# Altium footprint library FootPrintLib_6.PcbLib: 588 footprints (part 4 of 37)
Each footprint in its own frame and in the unit in brackets; x right, y up, seen from the top. Pads: shape width x height; smd on the part's side, far side on the other; paste and mask are expansions set on the pad; w line width, h text height; cw(c..) or ccw(c..) is an arc to the next point about the centre after c.
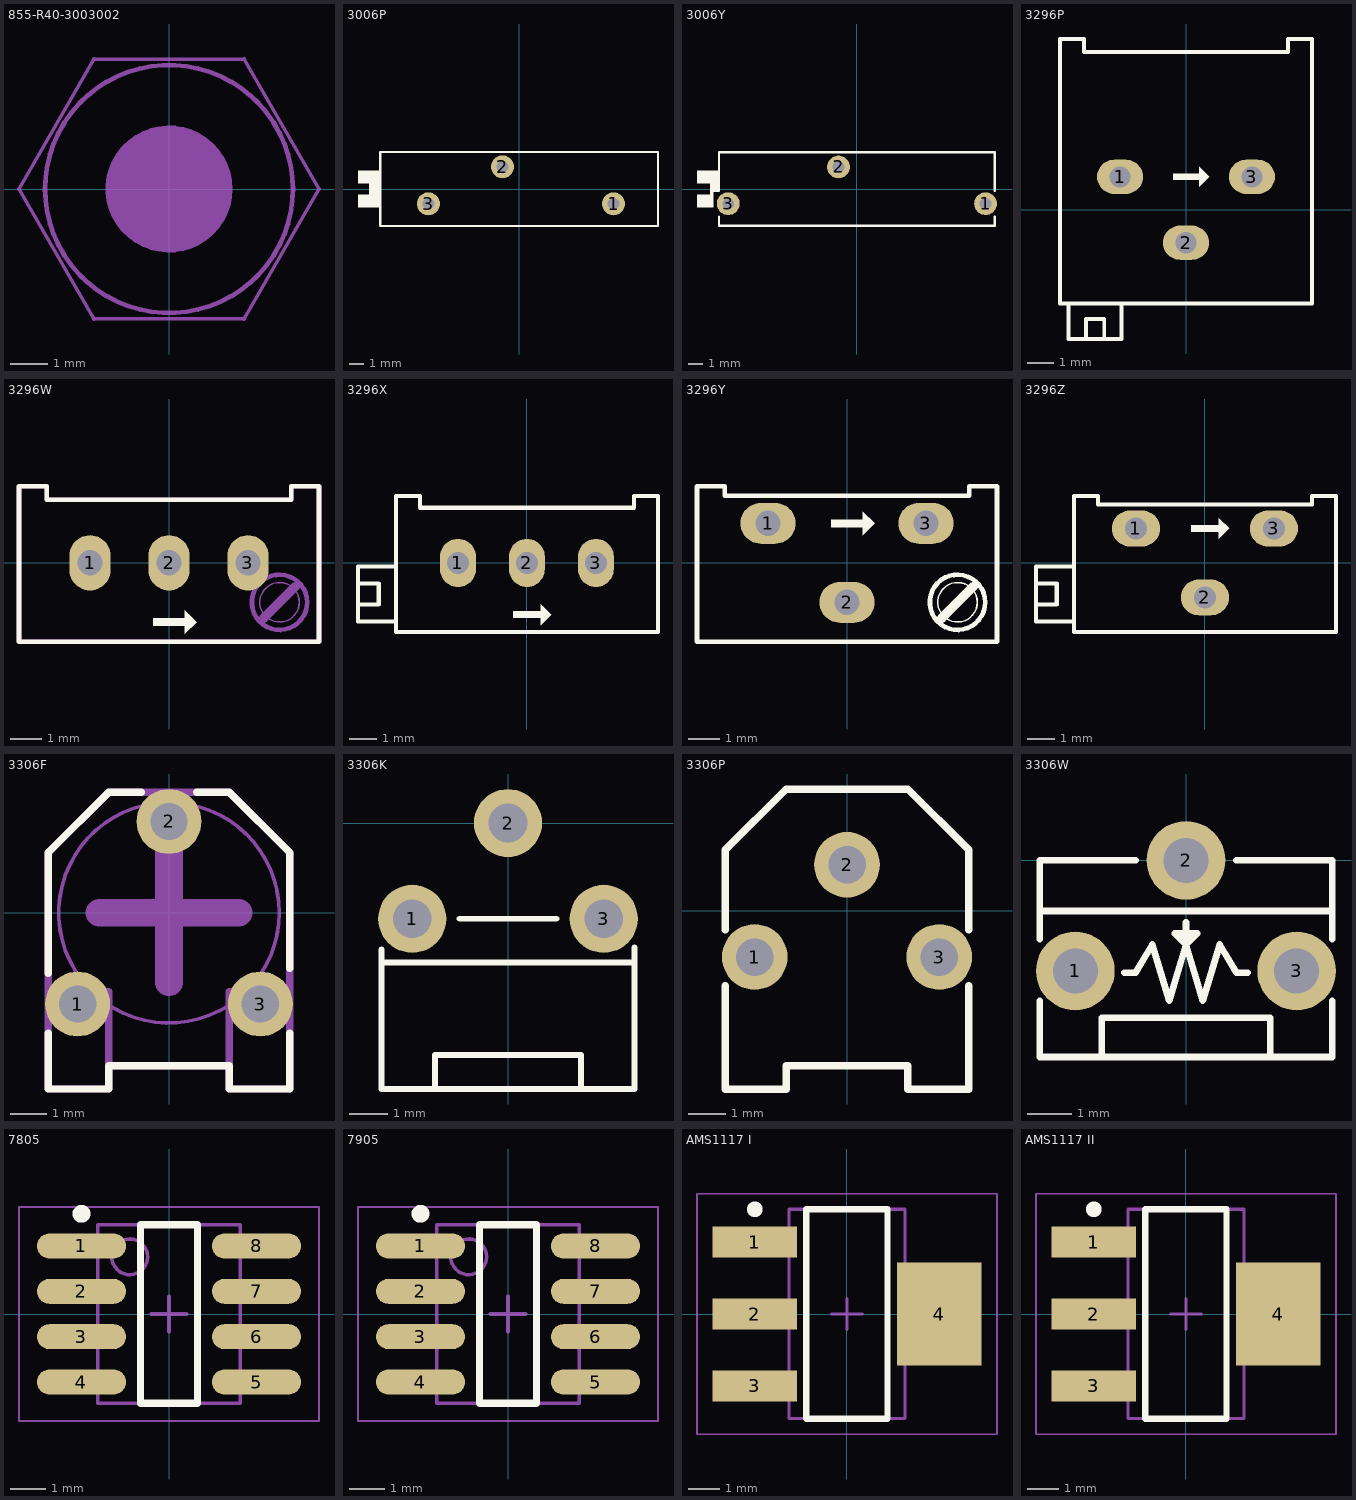
[diagram p3: the footprints below, top view; thin cyan lines are the x and y axes]

## 855-R40-3003002 [mm] "HARWiN Metric HEX Spacer; Threaded-Brass/Nickel; Male/Female; M4 X 30 mm"
height 30
Mechanical 2:
  circle w0.127: c0,0 r1.65
  circle w0.127: c0,0 r3.34
  region: 0,-1.65 -0.163,-1.65 -0.481,-1.587 -0.782,-1.462 -1.052,-1.282 -1.282,-1.052 -1.462,-0.782 -1.587,-0.481 -1.65,-0.163 -1.65,0 -1.65,0.163 -1.587,0.481 -1.462,0.782 -1.282,1.052 -1.052,1.282 -0.782,1.462 -0.481,1.587 -0.163,1.65 0,1.65 0.163,1.65 0.481,1.587 0.782,1.462 1.052,1.282 1.282,1.052 1.462,0.782 1.587,0.481 1.65,0.163 1.65,0 1.65,-0.163 1.587,-0.481 1.462,-0.782 1.282,-1.052 1.052,-1.282 0.782,-1.462 0.481,-1.587 0.163,-1.65
  lines w0.102: -4.043,-0.002 -2.019,3.502 ; -4.043,0.002 -2.019,-3.502 ; -2.024,-3.5 2.024,-3.5 ; -2.024,3.5 2.024,3.5 ; 2.019,-3.502 4.043,0.002 ; 2.019,3.502 4.043,-0.002
3D body "Metric Brass-Nickel HEX Spacer Male-Female M4 X 30 mm.STEP": height 30, standoff -8, extent -4.041,-3.5 4.042,3.5

## 3006P [mil]
pads (3):
  round 62 hole 32: 1(255,-40) 2(-45,60) 3(-245,-40)
Top Overlay:
  rectangle: -435,-50 -400,-15
  rectangle: -435,15 -400,50
  rectangle: -405,-50 -375,50
  lines w6: -375,-100 -375,100 375,100 375,-100 -375,-100
3D body "SW3dPS-bourns_3006p.STEP": height 250.98, standoff -204.02, extent -435,-95 375,95

## 3006Y [mil]
pads (3):
  round 62 hole 32: 1(350,-40) 2(-50,60) 3(-350,-40)
Top Overlay:
  rectangle: -435,-50 -400,-15
  rectangle: -435,15 -400,50
  rectangle: -400,-50 -390,50
  rectangle: -390,-5 -375,50
  lines w6: -390,-5 -375,-5 -375,100 375,100 375,-5 ; -375,-75 -375,-100 375,-100 375,-75

## 3296P [mil]
pads (3):
  oval 70x52 hole 32: 1(-100,50) 2(0,-50) 3(100,50)
Top Overlay:
  rectangle: -20,45 20,55
  region: 20,65 20,35 35,50
  lines w6: -178,-142 -178,-196 -98,-196 -98,-142 ; -152,-196 -152,-166 -124,-166 -124,-196 ; -191,-142 -191,259 -155,259 -155,239 155,239 155,259 191,259 191,-142 -191,-142
3D body "SW3dPS-bourns 3296P pot.STEP": height 173.27, standoff -342.13, extent -187.6,-198.73 187.6,256

## 3296W [mil]
pads (3):
  oval 52x70 hole 32: 1(-100,0) 2(0,0) 3(100,0)
Top Overlay:
  rectangle: -20,-80 20,-70
  region: 20,-60 20,-90 35,-75
  lines w6: -190,-100 -190,97 -155,97 -155,80 155,80 155,97 190,97 190,-100 -190,-100
Mechanical 1:
  circle w6: c140,-50 r35
  circle w2: c140,-50 r25
  lines w6: -190,-100 190,-100 190,97 155,97 155,80 -155,80 -155,97 -190,97 -190,-100
  lines w12: 120,-70 160,-30
3D body "SW3dPS-bourns 3296W pot.STEP": height 454.72, standoff -251.97, extent -187.19,-96 188,94.2

## 3296X [mil]
pads (3):
  oval 52x70 hole 32: 1(-100,0) 2(0,0) 3(100,0)
Top Overlay:
  rectangle: -20,-80 20,-70
  region: 20,-60 20,-90 35,-75
  lines w6: -245,-60 -215,-60 -215,-30 -245,-30 ; -190,-85 -245,-85 -245,-5 -190,-5 ; -190,-100 -190,97 -155,97 -155,80 155,80 155,97 190,97 190,-100 -190,-100
3D body "SW3dPS-bourns 3296X pot.STEP": height 394.88, standoff -251.97, extent -247.44,-95 187.6,95.19

## 3296Y [mil]
pads (3):
  oval 70x52 hole 32: 1(-100,50) 2(0,-50) 3(100,50)
Top Overlay:
  circle w2: c140,-50 r25
  circle w6: c140,-50 r35
  rectangle: -20,45 20,55
  region: 20,65 20,35 35,50
  lines w6: -190,-100 190,-100 190,97 155,97 155,85 -155,85 -155,97 -190,97 -190,-100
  lines w12: 120,-70 160,-30
3D body "SW3dPS-bourns 3296Y pot.STEP": height 454.72, standoff -251.97, extent -187.6,-95 187.6,95.19

## 3296Z [mil]
pads (3):
  oval 70x52 hole 32: 1(-100,50) 2(0,-50) 3(100,50)
Top Overlay:
  rectangle: -20,45 20,55
  region: 20,65 20,35 35,50
  lines w6: -245,-60 -215,-60 -215,-30 -245,-30 ; -190,-85 -245,-85 -245,-5 -190,-5 ; -190,-100 190,-100 190,97 155,97 155,85 -155,85 -155,97 -190,97 -190,-100
3D body "SW3dPS-bourns 3296Z pot.STEP": height 394.88, standoff -251.97, extent -247.44,-95 187.6,95.19

## 3306F [mil]
pads (3):
  round 70 hole 40: 1(-98.43,-98.43) 2(0,98.43) 3(98.43,-98.43)
Top Overlay:
  lines w8: -130,-130 -130,-190 -65,-190 -65,-165 65,-165 65,-190 130,-190 130,-130 ; -130,-65 -130,65 -65,130 -30,130 ; 30,130 65,130 130,65 130,-60
Mechanical 1:
  circle w3.94: c0,0 r118.85
  lines w8: -130,-60 -130,-85 -65,-85 -65,-165 ; 130,-60 130,-85 65,-85 65,-165 ; -65,-165 -65,-190 -130,-190 -130,65 -65,130 65,130 130,65 130,-190 65,-190 65,-165 ; -65,-165 65,-165
  lines w30: -75,0 75,0 ; 0,-75 0,75
3D body "User Library-Trimmer, 3306F-1.STEP": height 300, standoff -119.49, extent -134.05,-191.99 134.05,132.88

## 3306K [mil]
pads (3):
  round 70 hole 40: 1(-98.43,-98.43) 2(0,0) 3(98.43,-98.43)
Top Overlay:
  lines w6: -130,-143.43 130,-143.43 ; -130,-130 -130,-273.43 130,-273.43 130,-127.95 ; -75,-273.43 -75,-238.43 75,-238.43 75,-273.43 ; -50,-98.43 50,-98.43

## 3306P [mil]
pads (3):
  round 70 hole 40: 1(-98.43,-49.21) 2(0,49.21) 3(98.43,-49.21)
Top Overlay:
  lines w8: -130,-80 -130,-190 -65,-190 -65,-165 65,-165 65,-190 130,-190 130,-80 ; -130,-20 -130,65 -65,130 65,130 130,65 130,-20

## 3306W [mil]
pads (3):
  round 70 hole 40: 1(-98.43,-98.43) 2(0,0) 3(98.43,-98.43)
Top Overlay:
  lines w6: -130,-125 -130,-175 130,-175 130,-125 ; -130,-70 -130,0 -45,0 ; -130,-45 130,-45 ; -75,-175 -75,-140 75,-140 75,-175 ; -55,-100 -45,-100 -30,-75 -15,-125 0,-75 ; 45,0 130,0 130,-70 ; 55,-100 45,-100 30,-75 15,-125 0,-75 ; 0,-75 0,-55 0,-75 ; 0,-75 10,-65 -10,-65 0,-75
3D body "User Library-POT-3306W.STEP": height 330.71, standoff -75, extent -134.05,-177.16 134.05,5.9

## 7805 [mm]
pads (8):
  oval 2.5x0.7 smd: 1(-2.45,1.905) 2(-2.45,0.635) 3(-2.45,-0.635) 4(-2.45,-1.905) 5(2.45,-1.905) 6(2.45,-0.635) 7(2.45,0.635) 8(2.45,1.905)
Top Overlay:
  circle w0.25: c-2.45,2.805 r0.125
  lines w0.2: -0.8,-2.5 0.8,-2.5 0.8,2.5 -0.8,2.5 -0.8,-2.5
Mechanical 13:
  circle w0.1: c-1.1,1.6 r0.5
  lines w0.1: -2,-2.5 2,-2.5 2,2.5 -2,2.5 -2,-2.5
Mechanical 15:
  lines w0.05: -4.2,-3 4.2,-3 4.2,3 -4.2,3 -4.2,-3
  lines w0.1: -0.5,0 0.5,0 ; 0,-0.5 0,0.5
3D body: height 1.75, standoff 0.1, extent -2,-2.5 2,2.5

## 7905 [mm]
pads (8):
  oval 2.5x0.7 smd: 1(-2.45,1.905) 2(-2.45,0.635) 3(-2.45,-0.635) 4(-2.45,-1.905) 5(2.45,-1.905) 6(2.45,-0.635) 7(2.45,0.635) 8(2.45,1.905)
Top Overlay:
  circle w0.25: c-2.45,2.805 r0.125
  lines w0.2: -0.8,-2.5 0.8,-2.5 0.8,2.5 -0.8,2.5 -0.8,-2.5
Mechanical 13:
  circle w0.1: c-1.1,1.6 r0.5
  lines w0.1: -2,-2.5 2,-2.5 2,2.5 -2,2.5 -2,-2.5
Mechanical 15:
  lines w0.05: -4.2,-3 4.2,-3 4.2,3 -4.2,3 -4.2,-3
  lines w0.1: -0.5,0 0.5,0 ; 0,-0.5 0,0.5
3D body: height 1.75, standoff 0.1, extent -2,-2.5 2,2.5

## AMS1117 I [mm]
pads (4):
  rect 2.7x1 smd: 1(-2.95,2.3) 2(-2.95,0) 3(-2.95,-2.3)
  rect 2.7x3.3 smd: 4(2.95,0)
Top Overlay:
  circle w0.25: c-2.95,3.35 r0.125
  lines w0.2: -1.3,-3.35 -1.3,3.35 1.3,3.35 1.3,-3.35 -1.3,-3.35
Mechanical 13:
  lines w0.1: -1.85,-3.35 -1.85,3.35 1.85,3.35 1.85,-3.35 -1.85,-3.35
Mechanical 15:
  lines w0.05: -4.8,-3.85 -4.8,3.85 4.8,3.85 4.8,-3.85 -4.8,-3.85
  lines w0.1: -0.5,0 0.5,0 ; 0,-0.5 0,0.5
3D body: height 1.8, standoff 0.02, extent -1.85,-3.35 1.85,3.35

## AMS1117 II [mm]
pads (4):
  rect 2.7x1 smd: 1(-2.95,2.3) 2(-2.95,0) 3(-2.95,-2.3)
  rect 2.7x3.3 smd: 4(2.95,0)
Top Overlay:
  circle w0.25: c-2.95,3.35 r0.125
  lines w0.2: -1.3,-3.35 -1.3,3.35 1.3,3.35 1.3,-3.35 -1.3,-3.35
Mechanical 13:
  lines w0.1: -1.85,-3.35 -1.85,3.35 1.85,3.35 1.85,-3.35 -1.85,-3.35
Mechanical 15:
  lines w0.05: -4.8,-3.85 -4.8,3.85 4.8,3.85 4.8,-3.85 -4.8,-3.85
  lines w0.1: -0.5,0 0.5,0 ; 0,-0.5 0,0.5
3D body: height 1.8, standoff 0.02, extent -1.85,-3.35 1.85,3.35